# EAGLE library part ARDUINO_NANO (library ArduinoNano)
Arduino Nano Device
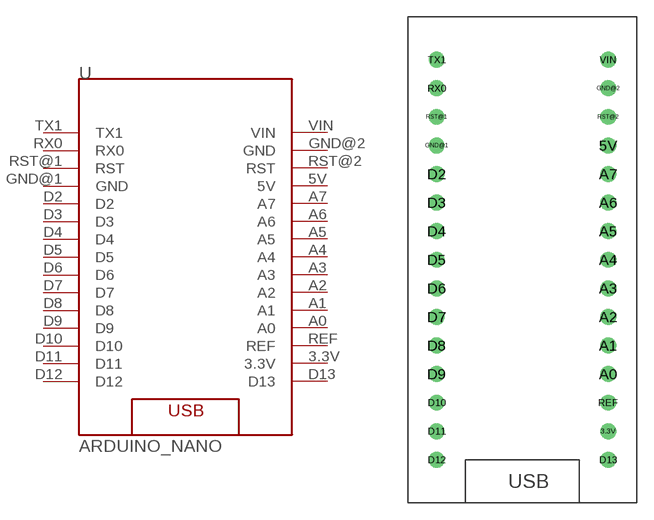
[diagram p0: symbol with the pads of ARDUINO_NANO; footprint ARDUINO_NANO]

Designator prefix U

## ARDUINO_NANO  [ARDUINO_NANO]
3.3V  3.3V
5V  5V
A0  A0
A1  A1
A2  A2
A3  A3
A4  A4
A5  A5
A6  A6
A7  A7
D2  D2
D3  D3
D4  D4
D5  D5
D6  D6
D7  D7
D8  D8
D9  D9
D10  D10
D11  D11
D12  D12
D13  D13
GND@1  GND
GND@2  GND
REF  REF
RST@1  RST
RST@2  RST
RX0  RX0
TX1  TX1
VIN  VIN

## Footprint ARDUINO_NANO (pad centres in mm)
Arduino Nano Footprint
drill 0.9: 3.3V 15.24,-20.32; 5V 15.24,5.08; A0 15.24,-15.24; A1 15.24,-12.7; A2 15.24,-10.16; A3 15.24,-7.62; A4 15.24,-5.08; A5 15.24,-2.54; A6 15.24,0; A7 15.24,2.54; D2 0,2.54; D3 0,0; D4 0,-2.54; D5 0,-5.08; D6 0,-7.62; D7 0,-10.16; D8 0,-12.7; D9 0,-15.24; D10 0,-17.78; D11 0,-20.32; D12 0,-22.86; D13 15.24,-22.86; GND@1 0,5.08; GND@2 15.24,10.16; REF 15.24,-17.78; RST@1 0,7.62; RST@2 15.24,7.62; RX0 0,10.16; TX1 0,12.7; VIN 15.24,12.7